# EAGLE library part MCP41X1 (library Synapseware)
The MCP41XX and MCP42XX devices offer a wide range of product offerings using an SPI interface. This family of devices support 7-bit and 8-bit resistor networks, and Potentiometer and Rheostat pinouts.
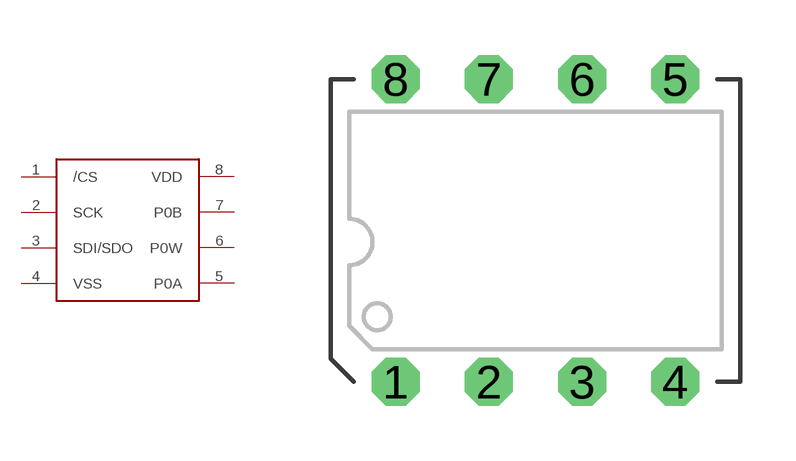
[diagram p24: symbol with the pads of PDIP-8; footprint PDIP-8]

Designator prefix -

## MCP41X1  [PDIP-8]
1  /CS
2  SCK
3  SDI/SDO
4  VSS
5  P0A
6  P0W
7  P0B
8  VDD

## Footprint PDIP-8 (pad centres in mm)
PDIP-8
drill 0.8 octagon: 1 0,0; 2 2.54,0; 3 5.08,0; 4 7.62,0; 5 7.62,8.255; 6 5.08,8.255; 7 2.54,8.255; 8 0,8.255